# Altium schematic symbol library Microchip_PIC16F722AT_I_SS.SchLib: 1 symbol
Pins are listed as number, name and electrical type; pins without a type are passive.

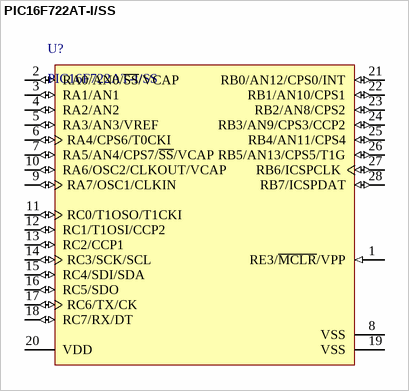
[diagram p0: symbol PIC16F722AT-I/SS]

## PIC16F722AT-I/SS
designator U?
Flash Microcontroller with nanoWatt XLP Technology, 20 MHz, 24 I/O, -40 to 85 degC, 28-pin SSOP (SS28), Tape and Reel; Manufacturer: Microchip; Internal Oscillator: 16 MHz, 500 kHz; Program Memory KWords: 2; I/O Pins: 24; RAM: 128; Max. CPU Speed MHz: 20; Packing: T/R; Operation Voltage Range: 1.8V - 5.5V; Digital Communication: 1 -A/E/USART, 1 -SSP(SPI/I2C); Timers: 2 - 8-bit, 1 - 16-bit, 0 - 32-bit; Program Memory KBytes: 3.5; # of A/D Channels: 11; PartNumber: PIC16F722AT-I/SS; ComponentLink1Description: Datasheet; ComponentLink2Description: Package Specification; DatasheetVersion: Rev. B; ComponentLink3URL: Product URL:http://www.microchip.com/datasheet/PIC16F722A; ComponentLink1URL: http://ww1.microchip.com/downloads/en/DeviceDoc/41417B.pdf; ComponentLink2URL: http://www.microchip.com/stellent/groups/techpub_sg/documents/packagingspec/en012702.pdf; PackageReference: SSOP-SS28; ComponentLink3Description: URL Link1; PackageVersion: C04-073B, 12/2012; RoHS: TRUE; Memory Type: Flash; Mounting Technology: Surface Mount; PackageDescription: 28-Lead Plastic Shrink Small Outline, 10.2 x 5.3 mm Body, 0.65 mm Pitch
footprint MCHP-SSOP-SS28_M
footprint MCHP-SSOP-SS28_L
footprint MCHP-SSOP-SS28_N
pins: 1 RE3/~{MCLR}/VPP (in), 2 RA0/AN0/~{SS}/VCAP (io), 3 RA1/AN1 (io), 4 RA2/AN2 (io), 5 RA3/AN3/VREF (io), 6 RA4/CPS6/T0CKI (io), 7 RA5/AN4/CPS7/~{SS}/VCAP (io), 8 VSS (power) "Ground reference.", 9 RA7/OSC1/CLKIN (io), 10 RA6/OSC2/CLKOUT/VCAP (io), 11 RC0/T1OSO/T1CKI (io), 12 RC1/T1OSI/CCP2 (io), 13 RC2/CCP1 (io), 14 RC3/SCK/SCL (io), 15 RC4/SDI/SDA (io), 16 RC5/SDO (io), 17 RC6/TX/CK (io), 18 RC7/RX/DT (io), 19 VSS (power) "Ground reference.", 20 VDD (power) "Positive supply.", 21 RB0/AN12/CPS0/INT (io), 22 RB1/AN10/CPS1 (io), 23 RB2/AN8/CPS2 (io), 24 RB3/AN9/CPS3/CCP2 (io), 25 RB4/AN11/CPS4 (io), 26 RB5/AN13/CPS5/T1G (io), 27 RB6/ICSPCLK (io), 28 RB7/ICSPDAT (io)